# Altium footprint library MPU.PcbLib: 1 footprints
Each footprint in its own frame and in the unit in brackets; x right, y up, seen from the top. Pads: shape width x height; smd on the part's side, far side on the other; paste and mask are expansions set on the pad; w line width, h text height; cw(c..) or ccw(c..) is an arc to the next point about the centre after c.
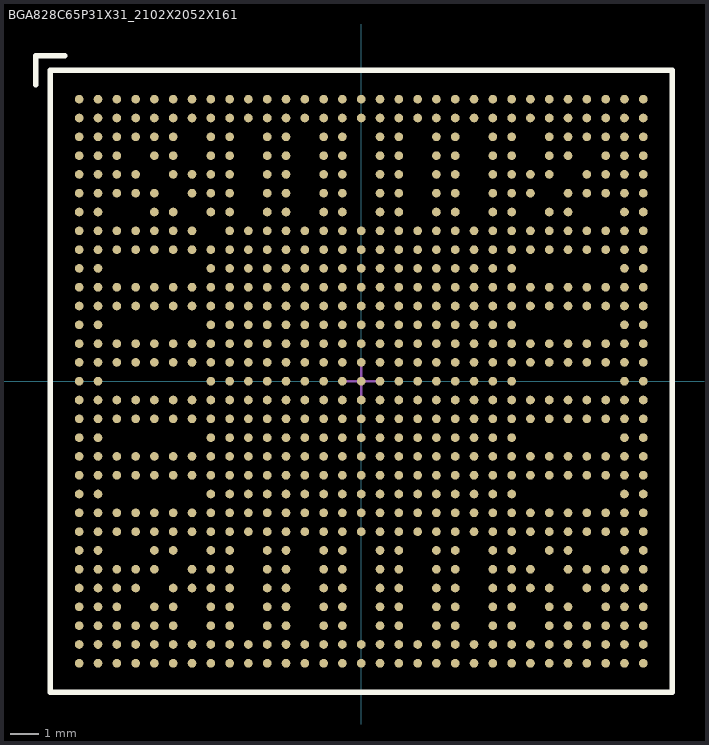
[diagram p0: the footprint, top view; thin cyan lines are the x and y axes]

## BGA828C65P31X31_2102X2052X161 [mm] "BGA, 828-Leads, Body 21.03x20.53mmx1.61mm, Pitch 0.65mm"
height 1.61
pads (828):
  round 0.3 smd mask+0.06: A1(-9.75,9.75) A2(-9.1,9.75) A3(-8.45,9.75) A4(-7.8,9.75) A5(-7.15,9.75) A6(-6.5,9.75) A7(-5.85,9.75) A8(-5.2,9.75) A9(-4.55,9.75) A10(-3.9,9.75) A11(-3.25,9.75) A12(-2.6,9.75) A13(-1.95,9.75) A14(-1.3,9.75) A15(-0.65,9.75) A16(0,9.75) A17(0.65,9.75) A18(1.3,9.75) A19(1.95,9.75) A20(2.6,9.75) A21(3.25,9.75) A22(3.9,9.75) A23(4.55,9.75) A24(5.2,9.75) A25(5.85,9.75) A26(6.5,9.75) A27(7.15,9.75) A28(7.8,9.75) A29(8.45,9.75) A30(9.1,9.75) A31(9.75,9.75) AA1(-9.75,-3.25) AA2(-9.1,-3.25) AA3(-8.45,-3.25) AA4(-7.8,-3.25) AA5(-7.15,-3.25) AA6(-6.5,-3.25) AA7(-5.85,-3.25) AA8(-5.2,-3.25) AA9(-4.55,-3.25) AA10(-3.9,-3.25) AA11(-3.25,-3.25) AA12(-2.6,-3.25) AA13(-1.95,-3.25) AA14(-1.3,-3.25) AA15(-0.65,-3.25) AA16(0,-3.25) AA17(0.65,-3.25) AA18(1.3,-3.25) AA19(1.95,-3.25) AA20(2.6,-3.25) AA21(3.25,-3.25) AA22(3.9,-3.25) AA23(4.55,-3.25) AA24(5.2,-3.25) AA25(5.85,-3.25) AA26(6.5,-3.25) AA27(7.15,-3.25) AA28(7.8,-3.25) AA29(8.45,-3.25) AA30(9.1,-3.25) AA31(9.75,-3.25) AB1(-9.75,-3.9) AB2(-9.1,-3.9) AB8(-5.2,-3.9) AB9(-4.55,-3.9) AB10(-3.9,-3.9) AB11(-3.25,-3.9) AB12(-2.6,-3.9) AB13(-1.95,-3.9) AB14(-1.3,-3.9) AB15(-0.65,-3.9) AB16(0,-3.9) AB17(0.65,-3.9) AB18(1.3,-3.9) AB19(1.95,-3.9) AB20(2.6,-3.9) AB21(3.25,-3.9) AB22(3.9,-3.9) AB23(4.55,-3.9) AB24(5.2,-3.9) AB30(9.1,-3.9) AB31(9.75,-3.9) AC1(-9.75,-4.55) AC2(-9.1,-4.55) AC3(-8.45,-4.55) AC4(-7.8,-4.55) AC5(-7.15,-4.55) AC6(-6.5,-4.55) AC7(-5.85,-4.55) AC8(-5.2,-4.55) AC9(-4.55,-4.55) AC10(-3.9,-4.55) AC11(-3.25,-4.55) AC12(-2.6,-4.55) AC13(-1.95,-4.55) AC14(-1.3,-4.55) AC15(-0.65,-4.55) AC16(0,-4.55) AC17(0.65,-4.55) AC18(1.3,-4.55) AC19(1.95,-4.55) AC20(2.6,-4.55) AC21(3.25,-4.55) AC22(3.9,-4.55) AC23(4.55,-4.55) AC24(5.2,-4.55) AC25(5.85,-4.55) AC26(6.5,-4.55) AC27(7.15,-4.55) AC28(7.8,-4.55) AC29(8.45,-4.55) AC30(9.1,-4.55) AC31(9.75,-4.55) AD1(-9.75,-5.2) AD2(-9.1,-5.2) AD3(-8.45,-5.2) AD4(-7.8,-5.2) AD5(-7.15,-5.2) AD6(-6.5,-5.2) AD7(-5.85,-5.2) AD8(-5.2,-5.2) AD9(-4.55,-5.2) AD10(-3.9,-5.2) AD11(-3.25,-5.2) AD12(-2.6,-5.2) AD13(-1.95,-5.2) AD14(-1.3,-5.2) AD15(-0.65,-5.2) AD16(0,-5.2) AD17(0.65,-5.2) AD18(1.3,-5.2) AD19(1.95,-5.2) AD20(2.6,-5.2) AD21(3.25,-5.2) AD22(3.9,-5.2) AD23(4.55,-5.2) AD24(5.2,-5.2) AD25(5.85,-5.2) AD26(6.5,-5.2) AD27(7.15,-5.2) AD28(7.8,-5.2) AD29(8.45,-5.2) AD30(9.1,-5.2) AD31(9.75,-5.2) AE1(-9.75,-5.85) AE2(-9.1,-5.85) AE5(-7.15,-5.85) AE6(-6.5,-5.85) AE8(-5.2,-5.85) AE9(-4.55,-5.85) AE11(-3.25,-5.85) AE12(-2.6,-5.85) AE14(-1.3,-5.85) AE15(-0.65,-5.85) AE17(0.65,-5.85) AE18(1.3,-5.85) AE20(2.6,-5.85) AE21(3.25,-5.85) AE23(4.55,-5.85) AE24(5.2,-5.85) AE26(6.5,-5.85) AE27(7.15,-5.85) AE30(9.1,-5.85) AE31(9.75,-5.85) AF1(-9.75,-6.5) AF2(-9.1,-6.5) AF3(-8.45,-6.5) AF4(-7.8,-6.5) AF5(-7.15,-6.5) AF7(-5.85,-6.5) AF8(-5.2,-6.5) AF9(-4.55,-6.5) AF11(-3.25,-6.5) AF12(-2.6,-6.5) AF14(-1.3,-6.5) AF15(-0.65,-6.5) AF17(0.65,-6.5) AF18(1.3,-6.5) AF20(2.6,-6.5) AF21(3.25,-6.5) AF23(4.55,-6.5) AF24(5.2,-6.5) AF25(5.85,-6.5) AF27(7.15,-6.5) AF28(7.8,-6.5) AF29(8.45,-6.5) AF30(9.1,-6.5) AF31(9.75,-6.5) AG1(-9.75,-7.15) AG2(-9.1,-7.15) AG3(-8.45,-7.15) AG4(-7.8,-7.15) AG6(-6.5,-7.15) AG7(-5.85,-7.15) AG8(-5.2,-7.15) AG9(-4.55,-7.15) AG11(-3.25,-7.15) AG12(-2.6,-7.15) AG14(-1.3,-7.15) AG15(-0.65,-7.15) AG17(0.65,-7.15) AG18(1.3,-7.15) AG20(2.6,-7.15) AG21(3.25,-7.15) AG23(4.55,-7.15) AG24(5.2,-7.15) AG25(5.85,-7.15) AG26(6.5,-7.15) AG28(7.8,-7.15) AG29(8.45,-7.15) AG30(9.1,-7.15) AG31(9.75,-7.15) AH1(-9.75,-7.8) AH2(-9.1,-7.8) AH3(-8.45,-7.8) AH5(-7.15,-7.8) AH6(-6.5,-7.8) AH8(-5.2,-7.8) AH9(-4.55,-7.8) AH11(-3.25,-7.8) AH12(-2.6,-7.8) AH14(-1.3,-7.8) AH15(-0.65,-7.8) AH17(0.65,-7.8) AH18(1.3,-7.8) AH20(2.6,-7.8) AH21(3.25,-7.8) AH23(4.55,-7.8) AH24(5.2,-7.8) AH26(6.5,-7.8) AH27(7.15,-7.8) AH29(8.45,-7.8) AH30(9.1,-7.8) AH31(9.75,-7.8) AJ1(-9.75,-8.45) AJ2(-9.1,-8.45) AJ3(-8.45,-8.45) AJ4(-7.8,-8.45) AJ5(-7.15,-8.45) AJ6(-6.5,-8.45) AJ8(-5.2,-8.45) AJ9(-4.55,-8.45) AJ11(-3.25,-8.45) AJ12(-2.6,-8.45) AJ14(-1.3,-8.45) AJ15(-0.65,-8.45) AJ17(0.65,-8.45) AJ18(1.3,-8.45) AJ20(2.6,-8.45) AJ21(3.25,-8.45) AJ23(4.55,-8.45) AJ24(5.2,-8.45) AJ26(6.5,-8.45) AJ27(7.15,-8.45) AJ28(7.8,-8.45) AJ29(8.45,-8.45) AJ30(9.1,-8.45) AJ31(9.75,-8.45) AK1(-9.75,-9.1) AK2(-9.1,-9.1) AK3(-8.45,-9.1) AK4(-7.8,-9.1) AK5(-7.15,-9.1) AK6(-6.5,-9.1) AK7(-5.85,-9.1) AK8(-5.2,-9.1) AK9(-4.55,-9.1) AK10(-3.9,-9.1) AK11(-3.25,-9.1) AK12(-2.6,-9.1) AK13(-1.95,-9.1) AK14(-1.3,-9.1) AK15(-0.65,-9.1) AK16(0,-9.1) AK17(0.65,-9.1) AK18(1.3,-9.1) AK19(1.95,-9.1) AK20(2.6,-9.1) AK21(3.25,-9.1) AK22(3.9,-9.1) AK23(4.55,-9.1) AK24(5.2,-9.1) AK25(5.85,-9.1) AK26(6.5,-9.1) AK27(7.15,-9.1) AK28(7.8,-9.1) AK29(8.45,-9.1) AK30(9.1,-9.1) AK31(9.75,-9.1) AL1(-9.75,-9.75) AL2(-9.1,-9.75) AL3(-8.45,-9.75) AL4(-7.8,-9.75) AL5(-7.15,-9.75) AL6(-6.5,-9.75) AL7(-5.85,-9.75) AL8(-5.2,-9.75) AL9(-4.55,-9.75) AL10(-3.9,-9.75) AL11(-3.25,-9.75) AL12(-2.6,-9.75) AL13(-1.95,-9.75) AL14(-1.3,-9.75) AL15(-0.65,-9.75) AL16(0,-9.75) AL17(0.65,-9.75) AL18(1.3,-9.75) AL19(1.95,-9.75) AL20(2.6,-9.75) AL21(3.25,-9.75) AL22(3.9,-9.75) AL23(4.55,-9.75) AL24(5.2,-9.75) AL25(5.85,-9.75) AL26(6.5,-9.75) AL27(7.15,-9.75) AL28(7.8,-9.75) AL29(8.45,-9.75) AL30(9.1,-9.75) AL31(9.75,-9.75) B1(-9.75,9.1) B2(-9.1,9.1) B3(-8.45,9.1) B4(-7.8,9.1) B5(-7.15,9.1) B6(-6.5,9.1) B7(-5.85,9.1) B8(-5.2,9.1) B9(-4.55,9.1) B10(-3.9,9.1) B11(-3.25,9.1) B12(-2.6,9.1) B13(-1.95,9.1) B14(-1.3,9.1) B15(-0.65,9.1) B16(0,9.1) B17(0.65,9.1) B18(1.3,9.1) B19(1.95,9.1) B20(2.6,9.1) B21(3.25,9.1) B22(3.9,9.1) B23(4.55,9.1) B24(5.2,9.1) B25(5.85,9.1) B26(6.5,9.1) B27(7.15,9.1) B28(7.8,9.1) B29(8.45,9.1) B30(9.1,9.1) B31(9.75,9.1) C1(-9.75,8.45) C2(-9.1,8.45) C3(-8.45,8.45) C4(-7.8,8.45) C5(-7.15,8.45) C6(-6.5,8.45) C8(-5.2,8.45) C9(-4.55,8.45) C11(-3.25,8.45) C12(-2.6,8.45) C14(-1.3,8.45) C15(-0.65,8.45) C17(0.65,8.45) C18(1.3,8.45) C20(2.6,8.45) C21(3.25,8.45) C23(4.55,8.45) C24(5.2,8.45) C26(6.5,8.45) C27(7.15,8.45) C28(7.8,8.45) C29(8.45,8.45) C30(9.1,8.45) C31(9.75,8.45) D1(-9.75,7.8) D2(-9.1,7.8) D3(-8.45,7.8) D5(-7.15,7.8) D6(-6.5,7.8) D8(-5.2,7.8) D9(-4.55,7.8) D11(-3.25,7.8) D12(-2.6,7.8) D14(-1.3,7.8) D15(-0.65,7.8) D17(0.65,7.8) D18(1.3,7.8) D20(2.6,7.8) D21(3.25,7.8) D23(4.55,7.8) D24(5.2,7.8) D26(6.5,7.8) D27(7.15,7.8) D29(8.45,7.8) D30(9.1,7.8) D31(9.75,7.8) E1(-9.75,7.15) E2(-9.1,7.15) E3(-8.45,7.15) E4(-7.8,7.15) E6(-6.5,7.15) E7(-5.85,7.15) E8(-5.2,7.15) E9(-4.55,7.15) E11(-3.25,7.15) E12(-2.6,7.15) E14(-1.3,7.15) E15(-0.65,7.15) E17(0.65,7.15) E18(1.3,7.15) E20(2.6,7.15) E21(3.25,7.15) E23(4.55,7.15) E24(5.2,7.15) E25(5.85,7.15) E26(6.5,7.15) E28(7.8,7.15) E29(8.45,7.15) E30(9.1,7.15) E31(9.75,7.15) F1(-9.75,6.5) F2(-9.1,6.5) F3(-8.45,6.5) F4(-7.8,6.5) F5(-7.15,6.5) F7(-5.85,6.5) F8(-5.2,6.5) F9(-4.55,6.5) F11(-3.25,6.5) F12(-2.6,6.5) F14(-1.3,6.5) F15(-0.65,6.5) F17(0.65,6.5) F18(1.3,6.5) F20(2.6,6.5) F21(3.25,6.5) F23(4.55,6.5) F24(5.2,6.5) F25(5.85,6.5) F27(7.15,6.5) F28(7.8,6.5) F29(8.45,6.5) F30(9.1,6.5) F31(9.75,6.5) G1(-9.75,5.85) G2(-9.1,5.85) G5(-7.15,5.85) G6(-6.5,5.85) G8(-5.2,5.85) G9(-4.55,5.85) G11(-3.25,5.85) G12(-2.6,5.85) G14(-1.3,5.85) G15(-0.65,5.85) G17(0.65,5.85) G18(1.3,5.85) G20(2.6,5.85) G21(3.25,5.85) G23(4.55,5.85) G24(5.2,5.85) G26(6.5,5.85) G27(7.15,5.85) G30(9.1,5.85) G31(9.75,5.85) H1(-9.75,5.2) H2(-9.1,5.2) H3(-8.45,5.2) H4(-7.8,5.2) H5(-7.15,5.2) H6(-6.5,5.2) H7(-5.85,5.2) H9(-4.55,5.2) H10(-3.9,5.2) H11(-3.25,5.2) H12(-2.6,5.2) H13(-1.95,5.2) H14(-1.3,5.2) H15(-0.65,5.2) H16(0,5.2) H17(0.65,5.2) H18(1.3,5.2) H19(1.95,5.2) H20(2.6,5.2) H21(3.25,5.2) H22(3.9,5.2) H23(4.55,5.2) H24(5.2,5.2) H25(5.85,5.2) H26(6.5,5.2) H27(7.15,5.2) H28(7.8,5.2) H29(8.45,5.2) H30(9.1,5.2) H31(9.75,5.2) J1(-9.75,4.55) J2(-9.1,4.55) J3(-8.45,4.55) J4(-7.8,4.55) J5(-7.15,4.55) J6(-6.5,4.55) J7(-5.85,4.55) J8(-5.2,4.55) J9(-4.55,4.55) J10(-3.9,4.55) J11(-3.25,4.55) J12(-2.6,4.55) J13(-1.95,4.55) J14(-1.3,4.55) J15(-0.65,4.55) J16(0,4.55) J17(0.65,4.55) J18(1.3,4.55) J19(1.95,4.55) J20(2.6,4.55) J21(3.25,4.55) J22(3.9,4.55) J23(4.55,4.55) J24(5.2,4.55) J25(5.85,4.55) J26(6.5,4.55) J27(7.15,4.55) J28(7.8,4.55) J29(8.45,4.55) J30(9.1,4.55) J31(9.75,4.55) K1(-9.75,3.9) K2(-9.1,3.9) K8(-5.2,3.9) K9(-4.55,3.9) K10(-3.9,3.9) K11(-3.25,3.9) K12(-2.6,3.9) K13(-1.95,3.9) K14(-1.3,3.9) K15(-0.65,3.9) K16(0,3.9) K17(0.65,3.9) K18(1.3,3.9) K19(1.95,3.9) K20(2.6,3.9) K21(3.25,3.9) K22(3.9,3.9) K23(4.55,3.9) K24(5.2,3.9) K30(9.1,3.9) K31(9.75,3.9) L1(-9.75,3.25) L2(-9.1,3.25) L3(-8.45,3.25) L4(-7.8,3.25) L5(-7.15,3.25) L6(-6.5,3.25) L7(-5.85,3.25) L8(-5.2,3.25) L9(-4.55,3.25) L10(-3.9,3.25) L11(-3.25,3.25) L12(-2.6,3.25) L13(-1.95,3.25) L14(-1.3,3.25) L15(-0.65,3.25) L16(0,3.25) L17(0.65,3.25) L18(1.3,3.25) L19(1.95,3.25) L20(2.6,3.25) L21(3.25,3.25) L22(3.9,3.25) L23(4.55,3.25) L24(5.2,3.25) L25(5.85,3.25) L26(6.5,3.25) L27(7.15,3.25) L28(7.8,3.25) L29(8.45,3.25) L30(9.1,3.25) L31(9.75,3.25) M1(-9.75,2.6) M2(-9.1,2.6) M3(-8.45,2.6) M4(-7.8,2.6) M5(-7.15,2.6) M6(-6.5,2.6) M7(-5.85,2.6) M8(-5.2,2.6) M9(-4.55,2.6) M10(-3.9,2.6) M11(-3.25,2.6) M12(-2.6,2.6) M13(-1.95,2.6) M14(-1.3,2.6) M15(-0.65,2.6) M16(0,2.6) M17(0.65,2.6) M18(1.3,2.6) M19(1.95,2.6) M20(2.6,2.6) M21(3.25,2.6) M22(3.9,2.6) M23(4.55,2.6) M24(5.2,2.6) M25(5.85,2.6) M26(6.5,2.6) M27(7.15,2.6) M28(7.8,2.6) M29(8.45,2.6) M30(9.1,2.6) M31(9.75,2.6) N1(-9.75,1.95) N2(-9.1,1.95) N8(-5.2,1.95) N9(-4.55,1.95) N10(-3.9,1.95) N11(-3.25,1.95) N12(-2.6,1.95) N13(-1.95,1.95) N14(-1.3,1.95) N15(-0.65,1.95) N16(0,1.95) N17(0.65,1.95) N18(1.3,1.95) N19(1.95,1.95) N20(2.6,1.95) N21(3.25,1.95) N22(3.9,1.95) N23(4.55,1.95) N24(5.2,1.95) N30(9.1,1.95) N31(9.75,1.95) P1(-9.75,1.3) P2(-9.1,1.3) P3(-8.45,1.3) P4(-7.8,1.3) P5(-7.15,1.3) P6(-6.5,1.3) P7(-5.85,1.3) P8(-5.2,1.3) P9(-4.55,1.3) P10(-3.9,1.3) P11(-3.25,1.3) P12(-2.6,1.3) P13(-1.95,1.3) P14(-1.3,1.3) P15(-0.65,1.3) P16(0,1.3) P17(0.65,1.3) P18(1.3,1.3) P19(1.95,1.3) P20(2.6,1.3) P21(3.25,1.3) P22(3.9,1.3) P23(4.55,1.3) P24(5.2,1.3) P25(5.85,1.3) P26(6.5,1.3) P27(7.15,1.3) P28(7.8,1.3) P29(8.45,1.3) P30(9.1,1.3) P31(9.75,1.3) R1(-9.75,0.65) R2(-9.1,0.65) R3(-8.45,0.65) R4(-7.8,0.65) R5(-7.15,0.65) R6(-6.5,0.65) R7(-5.85,0.65) R8(-5.2,0.65) R9(-4.55,0.65) R10(-3.9,0.65) R11(-3.25,0.65) R12(-2.6,0.65) R13(-1.95,0.65) R14(-1.3,0.65) R15(-0.65,0.65) R16(0,0.65) R17(0.65,0.65) R18(1.3,0.65) R19(1.95,0.65) R20(2.6,0.65) R21(3.25,0.65) R22(3.9,0.65) R23(4.55,0.65) R24(5.2,0.65) R25(5.85,0.65) R26(6.5,0.65) R27(7.15,0.65) R28(7.8,0.65) R29(8.45,0.65) R30(9.1,0.65) R31(9.75,0.65) T1(-9.75,0) T2(-9.1,0) T8(-5.2,0) T9(-4.55,0) T10(-3.9,0) T11(-3.25,0) T12(-2.6,0) T13(-1.95,0) T14(-1.3,0) T15(-0.65,0) T16(0,0) T17(0.65,0) T18(1.3,0) T19(1.95,0) T20(2.6,0) T21(3.25,0) T22(3.9,0) T23(4.55,0) T24(5.2,0) T30(9.1,0) T31(9.75,0) U1(-9.75,-0.65) U2(-9.1,-0.65) U3(-8.45,-0.65) U4(-7.8,-0.65) U5(-7.15,-0.65) U6(-6.5,-0.65) U7(-5.85,-0.65) U8(-5.2,-0.65) U9(-4.55,-0.65) U10(-3.9,-0.65) U11(-3.25,-0.65) U12(-2.6,-0.65) U13(-1.95,-0.65) U14(-1.3,-0.65) U15(-0.65,-0.65) U16(0,-0.65) U17(0.65,-0.65) U18(1.3,-0.65) U19(1.95,-0.65) U20(2.6,-0.65) U21(3.25,-0.65) U22(3.9,-0.65) U23(4.55,-0.65) U24(5.2,-0.65) U25(5.85,-0.65) U26(6.5,-0.65) U27(7.15,-0.65) U28(7.8,-0.65) U29(8.45,-0.65) U30(9.1,-0.65) U31(9.75,-0.65) V1(-9.75,-1.3) V2(-9.1,-1.3) V3(-8.45,-1.3) V4(-7.8,-1.3) V5(-7.15,-1.3) V6(-6.5,-1.3) V7(-5.85,-1.3) V8(-5.2,-1.3) V9(-4.55,-1.3) V10(-3.9,-1.3) V11(-3.25,-1.3) V12(-2.6,-1.3) V13(-1.95,-1.3) V14(-1.3,-1.3) V15(-0.65,-1.3) V16(0,-1.3) V17(0.65,-1.3) V18(1.3,-1.3) V19(1.95,-1.3) V20(2.6,-1.3) V21(3.25,-1.3) V22(3.9,-1.3) V23(4.55,-1.3) V24(5.2,-1.3) V25(5.85,-1.3) V26(6.5,-1.3) V27(7.15,-1.3) V28(7.8,-1.3) V29(8.45,-1.3) V30(9.1,-1.3) V31(9.75,-1.3) W1(-9.75,-1.95) W2(-9.1,-1.95) W8(-5.2,-1.95) W9(-4.55,-1.95) W10(-3.9,-1.95) W11(-3.25,-1.95) W12(-2.6,-1.95) W13(-1.95,-1.95) W14(-1.3,-1.95) W15(-0.65,-1.95) W16(0,-1.95) W17(0.65,-1.95) W18(1.3,-1.95) W19(1.95,-1.95) W20(2.6,-1.95) W21(3.25,-1.95) W22(3.9,-1.95) W23(4.55,-1.95) W24(5.2,-1.95) W30(9.1,-1.95) W31(9.75,-1.95) Y1(-9.75,-2.6) Y2(-9.1,-2.6) Y3(-8.45,-2.6) Y4(-7.8,-2.6) Y5(-7.15,-2.6) Y6(-6.5,-2.6) Y7(-5.85,-2.6) Y8(-5.2,-2.6) Y9(-4.55,-2.6) Y10(-3.9,-2.6) Y11(-3.25,-2.6) Y12(-2.6,-2.6) Y13(-1.95,-2.6) Y14(-1.3,-2.6) Y15(-0.65,-2.6) Y16(0,-2.6) Y17(0.65,-2.6) Y18(1.3,-2.6) Y19(1.95,-2.6) Y20(2.6,-2.6) Y21(3.25,-2.6) Y22(3.9,-2.6) Y23(4.55,-2.6) Y24(5.2,-2.6) Y25(5.85,-2.6) Y26(6.5,-2.6) Y27(7.15,-2.6) Y28(7.8,-2.6) Y29(8.45,-2.6) Y30(9.1,-2.6) Y31(9.75,-2.6)
Top Overlay:
  lines w0.2: -11.25,10.25 -11.25,11.25 -10.25,11.25 ; -10.75,-10.75 -10.75,10.75 10.75,10.75 10.75,-10.75 -10.75,-10.75
Mechanical 13:
  lines w0.1: -10.75,-10.75 -10.75,10.75 10.75,10.75 10.75,-10.75 -10.75,-10.75
Mechanical 15:
  lines w0.05: -10.75,-10.75 -10.75,10.75 10.75,10.75 10.75,-10.75 -10.75,-10.75
  lines w0.1: -0.5,0 0.5,0 ; 0,-0.5 0,0.5
3D body "RK3399--3DModel-STEP-56544.STEP": height 1.61, standoff 0, extent -10.5,-10.5 10.5,10.5